# Altium integrated library BM08B-GHS-TBT_LF__SN__N_.IntLib: 1 symbol
Pins are listed as number, name and electrical type; pins without a type are passive.

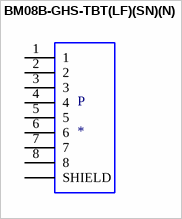
[diagram p0: symbol BM08B-GHS-TBT(LF)(SN)(N)]

## BM08B-GHS-TBT(LF)(SN)(N)
designator P
Connector Header Surface Mount 8 position 0.049 _1.25mm_; MF: JST Sales; MP: BM08B-GHS-TBT_LF__SN__N_; Package: None; Value: *; Price: None; SnapEDA_Link: https://www.snapeda.com/parts/BM08B-GHS-TBT%28LF%29%28SN%29%28N%29/JST%20Sales%20America%20Inc./view-part/568692/?ref=snap; Availability: Unavailable
footprint JST_BM08B-GHS-TBT(LF)(SN)(N)
pins: 1, 2, 3, 4, 5, 6, 7, 8, P1 SHIELD, P2 SHIELD